# EAGLE library part MOLEX-ULTRAFIT-1X06 (library MolexUltrafit)
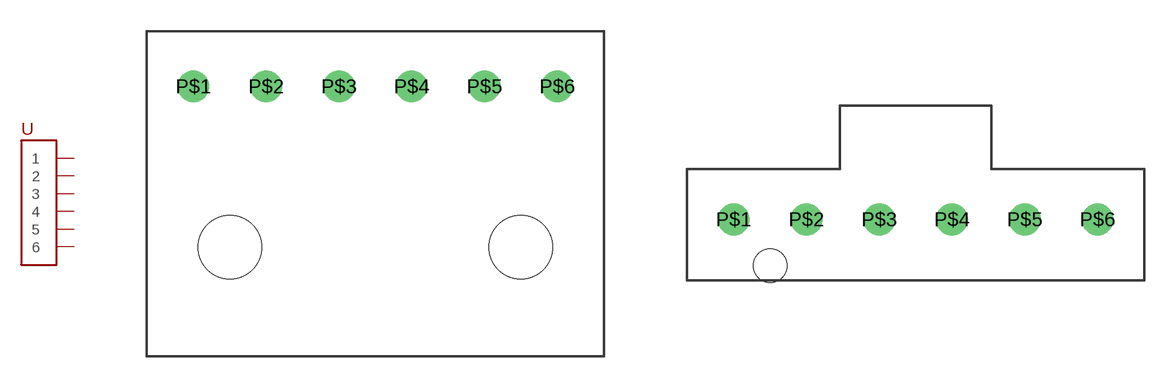
[diagram p1: symbol with the pads of MOLEX-ULTRAFIT-1X06H; footprints MOLEX-ULTRAFIT-1X06H, MOLEX-ULTRAFIT-1X06V]

Designator prefix -

## MOLEX-ULTRAFIT-1X06-HORIZ  [MOLEX-ULTRAFIT-1X06H]
P$1  1
P$2  2
P$3  3
P$4  4
P$5  5
P$6  6

## MOLEX-ULTRAFIT-1X06-VERT  [MOLEX-ULTRAFIT-1X06V]
Pads as for MOLEX-ULTRAFIT-1X06H

## Footprint MOLEX-ULTRAFIT-1X06H (pad centres in mm)
Molex UltraFit Horizontal 1x06 Parts 172310-1106 172310-1206 172310-1306 172310-2106 172310-2206 172310-2306 Data Sheet <https://www.molex.com/pdm_docs/sd/1723101108_sd.pdf>
drill 1.02: P$1 2.25,13; P$2 5.75,13; P$3 9.25,13; P$4 12.75,13; P$5 16.25,13; P$6 19.75,13
hole 3.05 at 4,5.25
hole 3.05 at 18,5.25

## Footprint MOLEX-ULTRAFIT-1X06V (pad centres in mm)
Molex UltraFit Vertical 1x06 Parts 172286-1106 172286-1206 172286-1306 172286-2106 172286-2206 172286-2306 Data Sheet <https://www.molex.com/pdm_docs/sd/1722861102_sd.pdf>
drill 1.02: P$1 2.25,2.93; P$2 5.75,2.93; P$3 9.25,2.93; P$4 12.75,2.93; P$5 16.25,2.93; P$6 19.75,2.93
hole 1.6 at 4,0.7